# Altium footprint library 传感器.PcbLib: 18 footprints (part 1 of 2)
Each footprint in its own frame and in the unit in brackets; x right, y up, seen from the top. Pads: shape width x height; smd on the part's side, far side on the other; paste and mask are expansions set on the pad; w line width, h text height; cw(c..) or ccw(c..) is an arc to the next point about the centre after c.
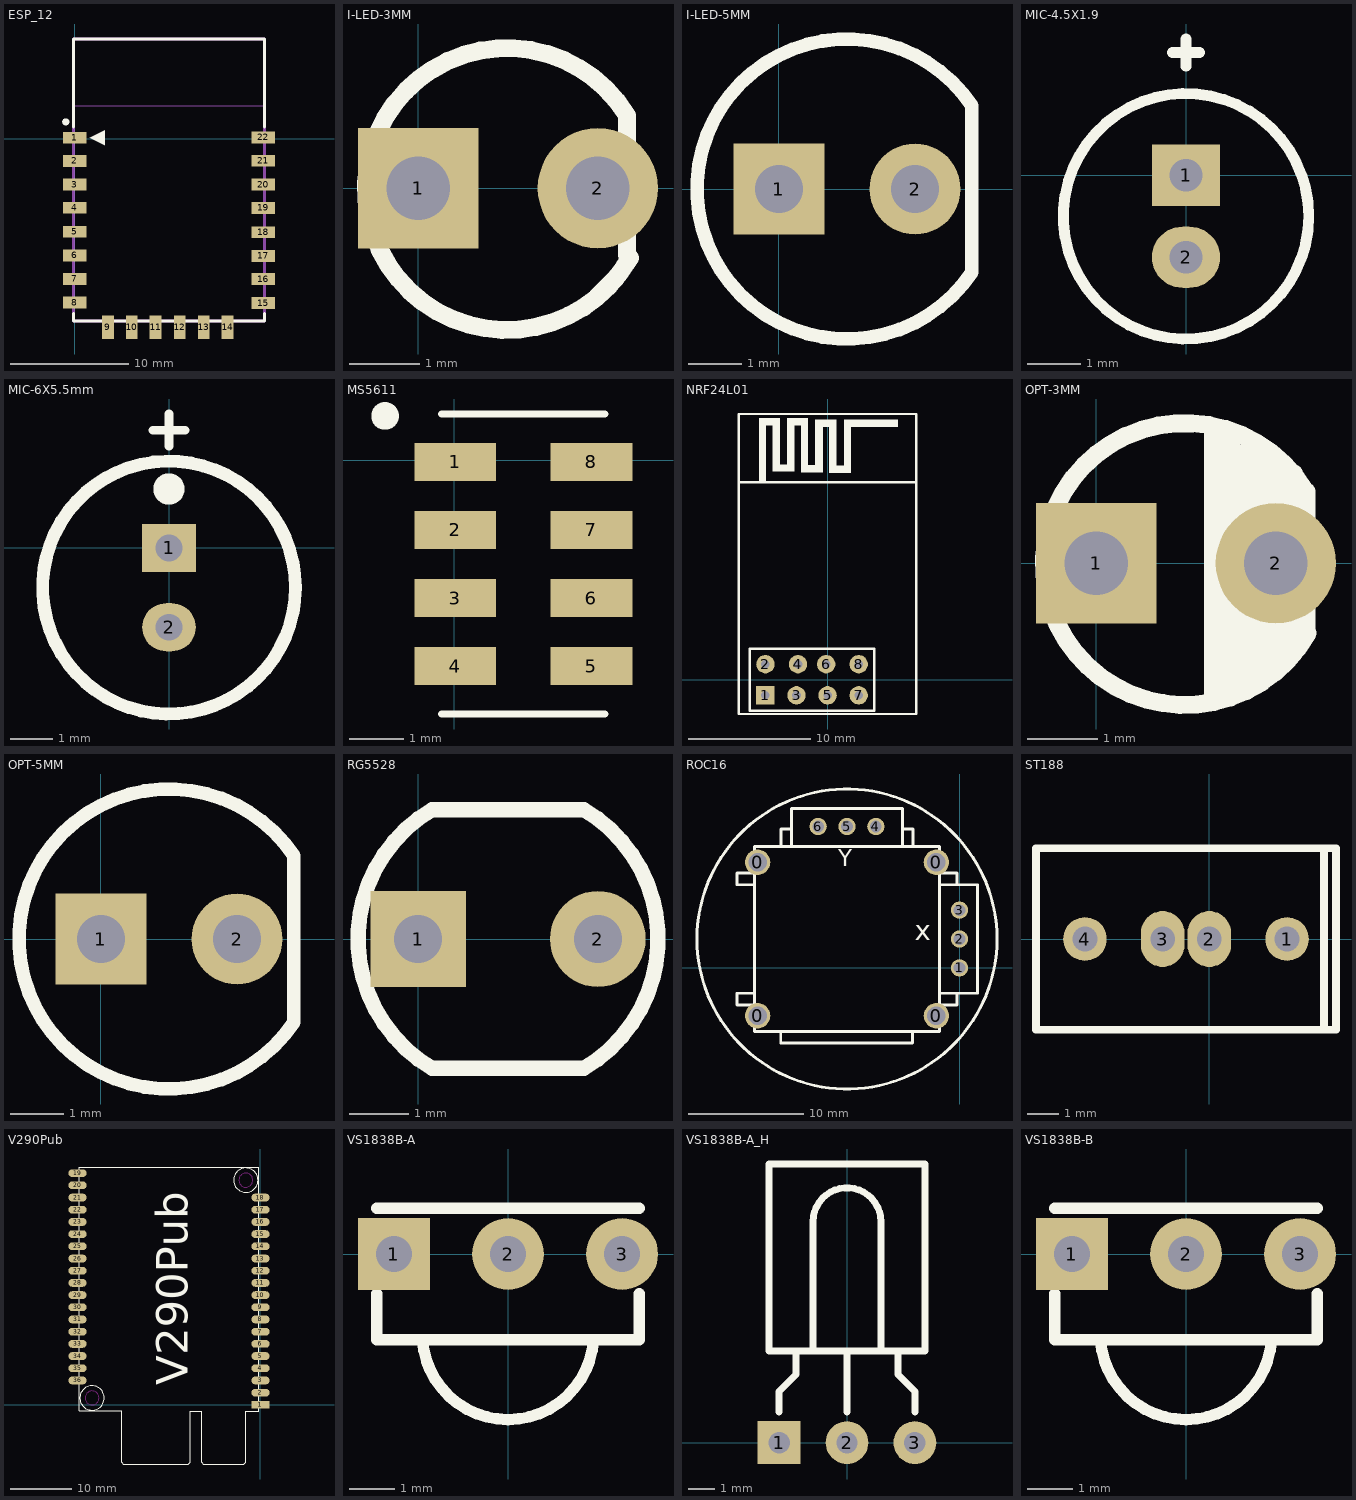
[diagram p0: the footprints below, top view; thin cyan lines are the x and y axes]

## ESP_12 [mm]
height 10
pads (22):
  rect 2x1 smd: 1(0,0.074) 2(0,-1.896) 3(0,-3.896) 4(0,-5.866) 5(0,-7.906) 6(0,-9.916) 7(0,-11.906) 8(0,-13.916) 15(16,-13.956) 16(16,-11.916) 17(16,-9.956) 18(16,-7.936) 19(16,-5.876) 20(16,-3.896) 21(16,-1.876) 22(16,0.104)
  rect 1x2 smd: 9(2.814,-16.002) 10(4.846,-16.002) 11(6.858,-16.002) 12(8.91,-16.002) 13(10.942,-16.002) 14(12.974,-16.002)
Top Overlay:
  circle w0.3: c-0.762,1.43 r0.15
  region: 1.27,0.074 2.54,-0.561 2.54,0.709
  lines w0.254: -0.084,-14.842 -0.084,-15.494 16.084,-15.494 16.084,-14.842 ; -0.084,0.991 -0.084,8.445 16.084,8.445 16.084,0.991
Mechanical 13:
  lines w0.051: -0.127,2.802 -0.127,8.456 16.129,8.456 16.129,2.802 -0.127,2.802
  lines w0.254: -0.084,-15.494 16.084,-15.494 16.084,8.446 -0.084,8.446 -0.084,-15.494
3D body "EPS8266 ESP-12E.STEP": height 2.65, standoff -0.04, extent -0.004,-15.487 16.006,8.518

## I-LED-3MM [mm]
pads (2):
  rect 1.7x1.7 hole 0.9: 1(0,0)
  round 1.7 hole 0.9: 2(2.54,0)
Top Overlay:
  lines w0.254: 2.54,-1.524 2.794,-1.27 ; 2.955,-0.947 2.955,1.025 ccw(c1.254,-0.012) 2.992,-0.985

## I-LED-5MM [mm]
pads (2):
  rect 1.7x1.7 hole 0.9: 1(0,0)
  round 1.7 hole 0.9: 2(2.54,0)
Top Overlay:
  lines w0.254: 3.6,-1.553 cw(c1.27,0) 3.6,1.553 3.6,-1.553

## MIC-4.5X1.9 [mil]
pads (2):
  rect 50x45 hole 24: 1(0,0)
  oval 50x45 hole 24: 2(0,-60)
Top Overlay:
  circle w8: c0,-30 r90
  lines w8: -10,90 10,90 ; 0,80 0,100
3D body "MIC4.5X1.9.STEP": height 75.38, standoff -110.24, extent -88.58,-117.17 88.58,60

## MIC-6X5.5mm [mil]
pads (2):
  rect 50x45 hole 25: 1(0,0)
  oval 50x45 hole 25: 2(0,-74)
Top Overlay:
  circle w15: c0,55 r7.07
  circle w12: c0,-37 r118
  lines w8: -15,110 15,110 ; 0,95 0,125
3D body "MIC6X5.5.STEP": height 197.64, standoff -118.11, extent -120,-153.11 116.22,83.11

## MS5611 [mm]
pads (8):
  rect 1.5x0.7 smd: 1(0.02,-0.03) 2(0.02,-1.28) 3(0.02,-2.53) 4(0.02,-3.78) 5(2.52,-3.78) 6(2.52,-2.53) 7(2.52,-1.28) 8(2.52,-0.03)
Top Overlay:
  circle w0.454: c-1.27,0.813 r0.025
  lines w0.127: -0.23,-4.659 2.77,-4.659 ; -0.23,0.849 2.77,0.849
3D body "SM5611-.STEP": height 1, standoff -0.01, extent -0.23,-4.492 2.77,0.508

## NRF24L01 [mm]
pads (8):
  rect 1.5x1.5 hole 0.7: 1(-5.08,-1.27)
  round 1.5 hole 0.7: 2(-5.08,1.27) 3(-2.54,-1.27) 4(-2.42,1.27) 5(0,-1.27) 6(-0.12,1.27) 7(2.54,-1.27) 8(2.54,1.27)
Top Overlay:
  rectangle: -5.599,16.129 -5.015,21.361
  rectangle: -5.015,20.777 -3.897,21.361
  rectangle: -4.507,17.018 -3.897,20.777
  rectangle: -3.897,17.018 -2.703,17.602
  rectangle: -3.313,17.602 -2.703,21.361
  rectangle: -2.703,20.777 -1.586,21.361
  rectangle: -2.17,16.942 -1.586,20.777
  rectangle: -1.586,16.942 -0.392,17.526
  rectangle: -1.027,17.526 -0.392,21.26
  rectangle: -0.392,20.65 0.726,21.26
  rectangle: 0.116,16.891 0.726,20.65
  rectangle: 0.726,16.891 1.919,17.501
  rectangle: 1.335,17.501 1.919,21.26
  rectangle: 1.919,20.65 5.755,21.26
  lines w0.2: -7.25,16.129 7.25,16.129 ; -7.25,-2.794 7.25,-2.794 7.25,21.706 -7.25,21.706 -7.25,-2.794 ; -6.35,-2.54 -6.35,2.54 3.81,2.54 3.81,-2.54 -6.35,-2.54

## OPT-3MM [mm]
pads (2):
  rect 1.7x1.7 hole 0.9: 1(0,0)
  round 1.7 hole 0.9: 2(2.54,0)
Top Overlay:
  lines w0.254: 1.651,-1.905 1.651,1.905 ; 1.905,-1.778 1.905,1.778 ; 2.286,-1.651 2.286,1.524 ; 2.794,1.27 2.794,-1.27 2.54,-1.524 2.54,1.397 2.413,1.524 2.286,1.524 ; 2.955,1.025 ccw(c1.254,-0.012) 2.99,-0.987 ; 2.972,-0.965 2.972,1.016 ; 2.159,1.651 2.159,-1.778 2.159,1.651 ; 2.159,1.651 2.286,1.524

## OPT-5MM [mm]
pads (2):
  rect 1.7x1.7 hole 0.9: 1(0,0)
  round 1.7 hole 0.9: 2(2.54,0)
Top Overlay:
  lines w0.254: 3.6,-1.553 cw(c1.27,0) 3.6,1.553 3.6,-1.553

## RG5528 [mm]
pads (2):
  rect 1.6x1.6 hole 0.8: 1(0,0)
  round 1.6 hole 0.8: 2(3,0)
Top Overlay:
  lines w0.254: 0.23,-2.159 cw(c1.5,0) 0.23,2.159 2.77,2.159 cw(c1.5,0) 2.77,-2.159 0.23,-2.159
3D body "RG5528-.STEP": height 1.9, standoff -3.45, extent -1,-2.159 4,2.141

## ROC16 [mm]
pads (10):
  round 2.2 hole 1.6: 0(-17.5,-4.15) 0(-17.5,9.15) 0(-2,-4.15) 0(-2,9.15)
  round 1.5 hole 1: 1(0,0) 2(0,2.5) 3(0,5) 4(-7.25,12.25) 5(-9.75,12.25) 6(-12.25,12.25)
Top Overlay:
  circle w0.254: c-9.75,2.5 r13
  lines w0.254: -17.75,-3.215 -19.275,-3.215 -19.275,-2.199 -17.75,-2.199 ; -17.75,7.199 -19.275,7.199 -19.275,8.215 -17.75,8.215 ; -15.491,-5.528 -15.491,-6.517 -4.061,-6.517 -4.061,-5.527 -4.087,-5.553 ; -15.465,10.5 -15.465,12.025 -14.55,12.025 ; -14.55,10.5 -14.55,13.8 -4.95,13.8 -4.95,10.5 ; -4.95,11.644 -4.95,10.5 ; -4.95,12.025 -4.035,12.025 -4.035,10.5 ; -4.924,10.526 -4.95,10.5 ; -1.75,-3.215 -0.225,-3.215 -0.225,-2.199 ; -1.75,-2.199 -0.225,-2.199 ; -1.75,7.199 -0.225,7.199 ; -1.75,8.215 -0.225,8.215 -0.225,7.199 ; -0.225,-2.199 1.55,-2.199 1.551,0.075 ; -0.225,7.199 1.553,7.199 1.552,4.824 1.551,0.075 ; 1.551,0.075 1.551,0.075 ; -17.75,-5.5 -1.75,-5.5 -1.75,10.5 -17.75,10.5 -17.75,-5.5
  text "x" at -3.883,1.763 h3
  text "Y" at -10.512,8.342 h2.5
3D body "ROC16-.STEP": height 29.36, standoff -3.65, extent -22.25,-10.054 2.75,14.946

## ST188 [mm]
pads (4):
  round 1.4 hole 0.8: 1(2.5,0) 4(-4,0)
  oval 1.4x1.8 hole 0.8: 2(0,0) 3(-1.5,0)
Top Overlay:
  lines w0.254: 3.695,-2.921 3.695,2.921 ; -5.576,-2.921 4.076,-2.921 4.076,2.921 -5.576,2.921 -5.576,-2.921
3D body "ST188-.STEP": height 8.2, standoff -3.5, extent -5.449,-2.75 3.951,2.75

## V290Pub [mm]
height 10
pads (36):
  rect 3x1.27 smd: 1(0,0)
  oval 3x1.27 smd: 2(0,2) 3(0,4) 4(0,6) 5(0,8) 6(0,10) 7(0,12) 8(0,14) 9(0,16) 10(0,18) 11(0,20) 12(0,22) 13(0,24) 14(0,26) 15(0,28) 16(0,30) 17(0,32) 18(0,34) 19(-30.008,38) 20(-30.008,36) 21(-30.008,34) 22(-30.008,32) 23(-30.008,30) 24(-30.008,28) 25(-30.008,26) 26(-30.008,24) 27(-30.008,22) 28(-30.008,20) 29(-30.008,18) 30(-30.008,16) 31(-30.008,14) 32(-30.008,12) 33(-30.008,10) 34(-30.008,8) 35(-30.008,6) 36(-30.008,4)
Top Overlay:
  circle w0.127: c-2.398,36.846 r2
  circle w0.127: c-27.62,1.134 r2
  lines w0.127: -29.754,-1 -29.754,39 -22.769,39 -0.254,39 -0.254,-1.024 -2.454,-1.024 -2.454,-9.406 -2.454,-9.446 -2.708,-9.7 -9.4,-9.7 -9.654,-9.446 -9.654,-1.024 -11.554,-1.024 -11.554,-9.446 -11.808,-9.7 -22.5,-9.7 -22.754,-9.446 -22.754,-1 -29.754,-1
  text "V290Pub" at -11.938,3.175 h5.2
Keep-Out Layer:
  circle w0.127: c-27.62,1.134 r1.145
  circle w0.127: c-2.398,36.846 r1.145

## VS1838B-A [mm]
pads (3):
  rect 1.6x1.6 hole 0.8: 1(-2.54,0)
  round 1.6 hole 0.8: 2(0,0) 3(2.54,0)
Top Overlay:
  lines w0.254: -2.921,-0.889 -2.921,-1.905 2.921,-1.905 2.921,-0.889 ; -2.921,1.016 2.921,1.016 ; -1.905,-1.905 ccw(c0,-1.778) 1.905,-1.905
3D body "VS1838B-A-.STEP": height 8.3, standoff -3.5, extent -2.713,-3.638 2.967,0.762

## VS1838B-A_H [mm]
pads (3):
  rect 1.6x1.6 hole 0.8: 1(-2.54,0)
  round 1.6 hole 0.8: 2(0,0) 3(2.54,0)
Top Overlay:
  lines w0.254: -2.54,1.143 -2.54,1.905 -1.905,2.54 -1.905,3.429 ; -1.27,3.429 -1.27,8.255 cw(c0,8.255) 1.27,8.255 1.27,3.429 ; 0,1.143 0,3.429 ; 1.905,3.429 1.905,2.54 2.54,1.905 2.54,1.143 ; -2.921,3.429 -2.921,10.414 2.921,10.414 2.921,3.429 -2.921,3.429
3D body "VS1838B-A_H-.STEP": height 4.4, standoff -3.5, extent -2.84,-0.254 2.84,10.246

## VS1838B-B [mm]
pads (3):
  rect 1.6x1.6 hole 0.8: 1(-2.54,0)
  round 1.6 hole 0.8: 2(0,0) 3(2.54,0)
Top Overlay:
  lines w0.254: -2.921,-0.889 -2.921,-1.905 2.921,-1.905 2.921,-0.889 ; -2.921,1.016 2.921,1.016 ; -1.905,-1.905 ccw(c0,-1.778) 1.905,-1.905
3D body "VS1838B-B-.STEP": height 8.65, standoff -3.5, extent -3.302,-3.947 3.498,1.153